# Altium footprint library MicroUSB.PcbLib: 2 footprints
Each footprint in its own frame and in the unit in brackets; x right, y up, seen from the top. Pads: shape width x height; smd on the part's side, far side on the other; paste and mask are expansions set on the pad; w line width, h text height; cw(c..) or ccw(c..) is an arc to the next point about the centre after c.
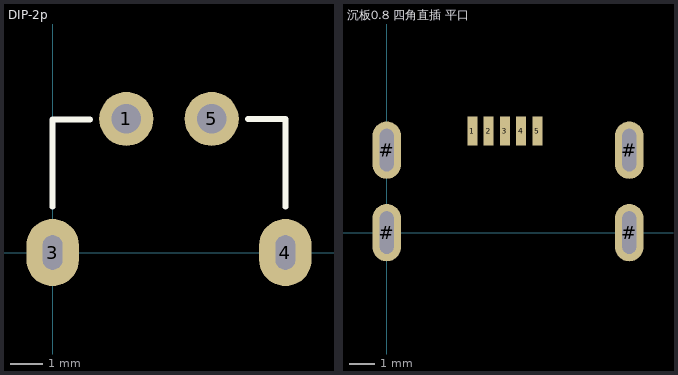
[diagram p0: the footprints below, top view; thin cyan lines are the x and y axes]

## DIP-2p [mm] "DIP-2p"
pads (4):
  round 1.651 hole 0.9: 1(2.25,4.08) 5(4.86,4.08)
  oval 1.6x2.05 hole 1.05 slot 0.6 at 0 deg: 3(0,0) 4(7.11,0)
Top Overlay:
  lines w0.178: 0,1.397 0,4.064 1.143,4.064 ; 5.969,4.08 7.112,4.08 7.112,1.397

## 沉板0.8 四角直插 平口 [mm]
pads (9):
  rect 0.4x1.15 smd: 1(3.429,4.064) 2(4.079,4.064) 3(4.729,4.064) 4(5.379,4.064) 5(6.029,4.064)
  oval 1.15x2.3 hole 1.7 slot 0.55 at 0 deg: #(0,0) #(0,3.3) #(9.7,0) #(9.7,3.3)